# Altium footprint library A.PcbLib: 19 footprints (part 1 of 2)
Each footprint in its own frame and in the unit in brackets; x right, y up, seen from the top. Pads: shape width x height; smd on the part's side, far side on the other; paste and mask are expansions set on the pad; w line width, h text height; cw(c..) or ccw(c..) is an arc to the next point about the centre after c.
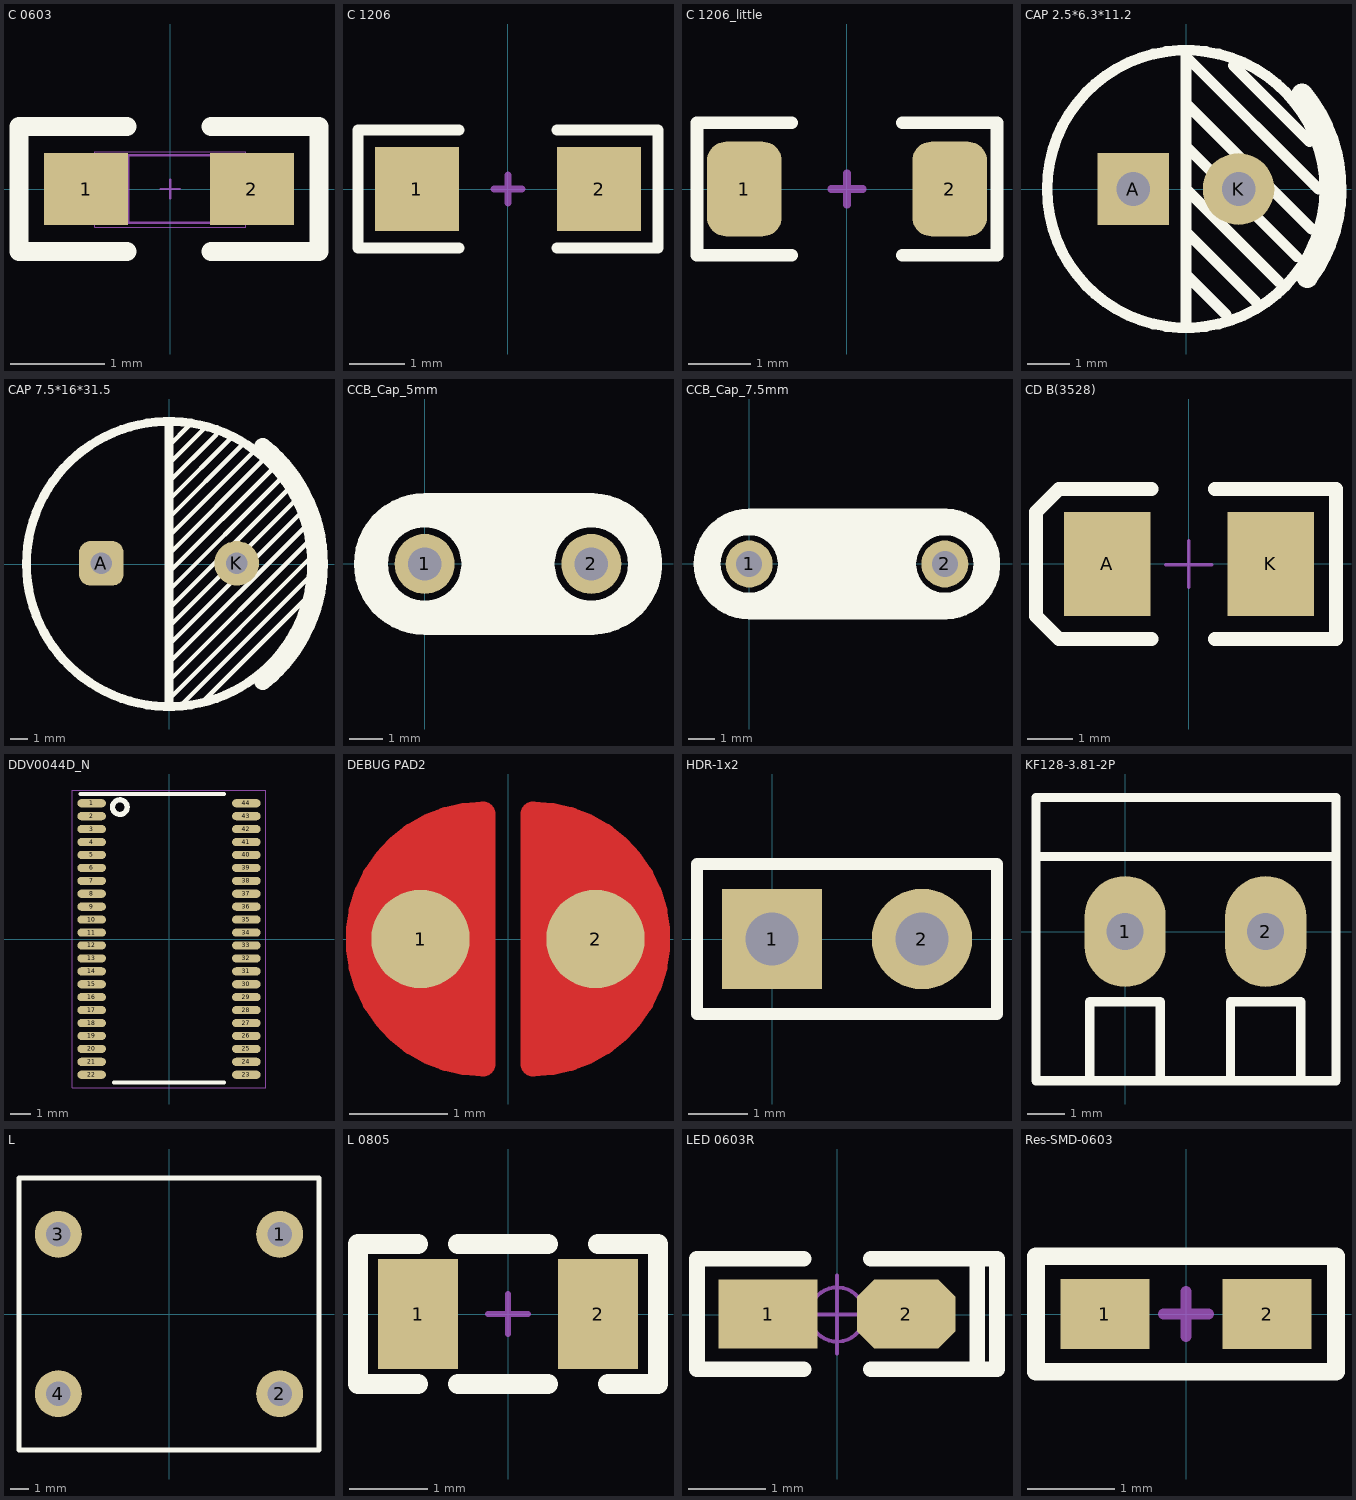
[diagram p0: the footprints below, top view; thin cyan lines are the x and y axes]

## C 0603 [mil] "无极性贴片电容"
pads (2):
  rect 35x30 smd: 1(-35,0) 2(34,0)
Top Overlay:
  lines w8: -18,-26 -63,-26 -63,26 -18,26 ; 17,-26 62,-26 62,26 17,26
Mechanical 13:
  lines w0.39: -31.5,-16 -31.5,15.5 31.5,15.5 31.5,-16 -31.5,-16
Mechanical 15:
  lines w1: -17.5,-14 -17.5,14 ; -3.94,0 3.94,0 ; 0,-3.94 0,3.94 ; 17.5,-14 17.5,14 ; -32,-14 -32,14 32,14 32,-14 -32,-14
3D body "C 0603.STEP": height 31.89, standoff -0.39, extent -31.5,-16.14 31.5,16.14

## C 1206 [mil] "无极性贴片电容"
pads (2):
  rect 60x60 smd: 1(-65,0) 2(65,0)
Top Overlay:
  lines w8: -35,-42 -107,-42 -107,42 -35,42 ; 35,-42 107,-42 107,42 35,42
Mechanical 15:
  lines w5: -10,0 10,0 ; 0,-10 0,10
3D body "C 1206.STEP": height 47.64, standoff -0.39, extent -62.99,-31.89 62.99,31.89

## C 1206_little [mil] "无极性贴片电容"
pads (2):
  rrect50% 47.24x60 smd: 1(-65,0) 2(65,0)
Top Overlay:
  lines w8: -35,-42 -95,-42 -95,42 -35,42 ; 35,-42 95,-42 95,42 35,42
Mechanical 15:
  lines w5: -10,0 10,0 ; 0,-10 0,10
3D body "C 1206.STEP": height 47.64, standoff -0.39, extent -62.99,-31.89 62.99,31.89

## CAP 2.5*6.3*11.2 [mm] "脚距2.5mm直径6.3mm高度11.2mm"
pads (2):
  rect 1.7x1.7 hole 0.8: A(-1.25,0)
  round 1.7 hole 0.8: K(1.25,0)
Top Overlay:
  circle w0.254: c0,0 r3.3
  lines w0.254: 0,-3.15 0,3.15 ; 0,-2.032 0.953,-2.984 ; 0,-1.016 1.638,-2.654 ; 0,0 2.21,-2.21 ; 0,1.016 2.629,-1.613 ; 0,2.032 2.984,-0.953 ; 0,3.048 0.102,3.048 3.15,0 ; 1.13,2.934 2.934,1.13
  lines w0.504: 2.759,2.258 cw(c0,0) 2.883,-2.097
3D body "CAP 2.5X6.3X11.2.STEP": height 11.23, standoff -3.38, extent -3.15,-3.15 3.16,3.15

## CAP 7.5*16*31.5 [mm] "脚距7.5mm直径16mm高度31.5mm"
pads (2):
  rrect50% 2.5x2.5 hole 1.2: A(-3.8,0.038)
  round 2.5 hole 1.2: K(3.8,0.038)
Top Overlay:
  circle w0.5: c0,0 r8
  lines w0.254: 0,-7.582 8.001,0.419 ; 0,-6.566 7.874,1.308 ; 0,-5.55 7.62,2.07 ; 0,-4.534 7.366,2.832 ; 0,-3.518 6.972,3.454 ; 0,-2.502 6.604,4.102 ; 0,-1.486 6.223,4.737 ; 0,-0.47 5.905,5.436 ; 0,0.546 5.296,5.842 ; 0,1.562 4.826,6.388 ; 0,2.578 4.064,6.642 ; 0,3.594 3.556,7.15 ; 0,4.61 2.54,7.15 2.769,7.379 ; 0,5.626 2.032,7.658 ; 0,6.642 1.143,7.785 ; 0.66,-7.938 7.938,-0.66 ; 2.032,-7.582 6.604,-3.01 7.81,-1.803
  lines w0.5: 0,-7.963 0,7.963
  lines w1: 5.259,-6.574 ccw(c0,0) 5.259,6.574
3D body "CAP 7.5X16X31.STEP": height 31.53, standoff -3.38, extent -8,-7.998 8.01,7.998

## CCB_Cap_5mm [mm]
height 10
pads (2):
  round 1.8 hole 1: 1(0,0) 2(5,0)
Top Overlay:
  circle w1: c5,0 r1.6
  circle w1: c0,0 r1.6
  lines w0.254: 0,-2 cw(c0.001,-2) 0.001,-1.999 5.057,-1.999 ccw(c5,0) 5.057,1.999 ccw(c5.056,1.999) 5.056,2 0,2 ccw(c0,0) 0,-2
  lines w0.5: 0.508,-1.651 4.318,-1.651 ; 0.508,1.778 4.318,1.778
  lines w1.8: 1.651,-1.143 3.302,-1.143 ; 1.778,1.143 3.175,1.143 ; 2.032,0 2.921,0

## CCB_Cap_7.5mm [mm]
height 10
pads (2):
  round 1.8 hole 1: 1(0,0) 2(7.5,0)
Top Overlay:
  circle w1: c0,0 r1.6
  circle w1: c7.5,0 r1.6
  lines w0.254: 5.056,2 cw(c5.056,1.999) 5.057,1.999 ; 7.557,1.999 cw(c7.5,0) 7.557,-1.999 0.001,-1.999 ccw(c0.001,-2) 0,-2 cw(c0,0) 0,2 7.557,2
  lines w0.5: 0.508,-1.651 7.493,-1.651 ; 0.508,1.778 6.731,1.778
  lines w1.8: 1.651,-1.143 5.588,-1.143 ; 1.778,1.143 5.461,1.143 ; 2.032,0 5.207,0

## CD B(3528) [mil] "长3.5mm，宽2.8mm，厚1.9mm"
pads (2):
  rect 75x90 smd: A(-70.87,-0.01) K(70.86,-0.01)
Top Overlay:
  lines w12: -32.51,-65.01 -112.51,-65.01 -132.51,-45.01 -132.51,44.99 -112.51,64.99 -32.51,64.99 ; 22.49,-65.01 127.49,-65.01 127.49,64.99 22.49,64.99
Mechanical 15:
  lines w3: -20.01,-0.79 19.99,-0.79 ; -0.01,-20.01 -0.01,19.99
3D body "CD B(3528).STEP": height 74.84, standoff -0.3, extent -68.92,-55.12 68.91,55.11

## DDV0044D_N [mm]
pads (44):
  oval 1.4x0.4 smd paste+0 mask+0: 1(-3.8,6.667) 2(-3.8,6.032) 3(-3.8,5.397) 4(-3.8,4.763) 5(-3.8,4.127) 6(-3.8,3.492) 7(-3.8,2.857) 8(-3.8,2.222) 9(-3.8,1.587) 10(-3.8,0.953) 11(-3.8,0.318) 12(-3.8,-0.318) 13(-3.8,-0.953) 14(-3.8,-1.587) 15(-3.8,-2.222) 16(-3.8,-2.857) 17(-3.8,-3.492) 18(-3.8,-4.127) 19(-3.8,-4.763) 20(-3.8,-5.397) 21(-3.8,-6.032) 22(-3.8,-6.667) 23(3.8,-6.667) 24(3.8,-6.032) 25(3.8,-5.397) 26(3.8,-4.763) 27(3.8,-4.127) 28(3.8,-3.492) 29(3.8,-2.857) 30(3.8,-2.222) 31(3.8,-1.587) 32(3.8,-0.953) 33(3.8,-0.318) 34(3.8,0.318) 35(3.8,0.953) 36(3.8,1.587) 37(3.8,2.222) 38(3.8,2.857) 39(3.8,3.492) 40(3.8,4.127) 41(3.8,4.763) 42(3.8,5.397) 43(3.8,6.032) 44(3.8,6.667)
Top Overlay:
  circle w0.254: c-2.413,6.477 r0.359
  lines w0.2: -4.35,7.125 2.7,7.125 ; -2.7,-7.05 2.7,-7.05
Mechanical 15:
  lines w0.05: -4.75,-7.3 4.75,-7.3 4.75,7.3 -4.75,7.3 -4.75,-7.3
3D body "DDV0044D.stp": height 1, standoff 0, extent -4.06,-7 4.061,7

## DEBUG PAD2 [mm] "调试断点焊盘"
pads (2):
  round 1 smd: 1(-0.889,0) 2(0.889,0)
Top Layer:
  region: 0.254,1.27 0.254,-1.27 0.762,-1.143 1.397,-0.508 1.524,0.254 1.27,0.762 1.016,1.016 0.508,1.27
  region: -0.254,1.27 -0.254,-1.27 -0.762,-1.143 -1.397,-0.508 -1.524,0.254 -1.27,0.762 -1.016,1.016 -0.508,1.27
  lines w0.254: -0.254,-1.27 cw(c-0.254,0) -0.254,1.27 -0.254,-1.27 ; 0.254,-1.27 ccw(c0.254,0) 0.254,1.27 0.254,-1.27
Top Solder:
  region: -0.254,1.27 -0.254,-1.27 -0.762,-1.143 -1.397,-0.508 -1.524,0.254 -1.27,0.762 -1.016,1.016 -0.508,1.27
  region: 0.254,1.27 0.254,-1.27 0.762,-1.143 1.397,-0.508 1.524,0.254 1.27,0.762 1.016,1.016 0.508,1.27
  lines w0.254: -0.254,-1.27 cw(c-0.254,0) -0.254,1.27 -0.254,-1.27 ; 0.254,-1.27 ccw(c0.254,0) 0.254,1.27 0.254,-1.27

## HDR-1x2 [mm] "排针，2脚"
pads (2):
  rect 1.7x1.7 hole 0.9: 1(0,0)
  round 1.7 hole 0.9: 2(2.54,0)
Top Overlay:
  lines w0.2: -1.27,-1.27 -1.27,1.27 3.81,1.27 3.81,-1.27 -1.27,-1.27
3D body "HDR2.54-1P.STEP": height 8.5, standoff -3, extent 1.27,-1.27 3.81,1.27
3D body "HDR2.54-1P.STEP": height 8.5, standoff -3, extent -1.27,-1.27 1.27,1.27

## KF128-3.81-2P [mm] "螺钉式接线端子，脚距3.81mm"
pads (2):
  oval 2.2x3 hole 1: 1(0,0) 2(3.81,0)
Top Overlay:
  lines w0.254: -2.413,2.032 5.715,2.032 ; -0.953,-4.039 -0.953,-1.905 0.953,-1.905 0.953,-4.039 ; 2.857,-4.039 2.857,-1.905 4.763,-1.905 4.763,-4.039 ; -2.413,-4.039 5.715,-4.039 5.715,3.632 -2.413,3.632 -2.413,-4.039
3D body "KF128.STEP": height 8.55, standoff -3.95, extent -2.405,-3.9 1.905,3.5
3D body "KF128.STEP": height 8.55, standoff -3.95, extent 1.405,-3.9 5.715,3.5

## L [mm]
height 16
pads (4):
  round 2.5 hole 1.3: 1(5.9,4.25) 2(5.9,-4.25) 3(-5.9,4.25) 4(-5.9,-4.25)
Top Overlay:
  lines w0.254: -8,-7.25 -8,7.25 8,7.25 8,-7.25 -8,-7.25

## L 0805 [mil] "小功率贴片电感"
pads (2):
  rect 40x55 smd: 1(-45,0) 2(45,0)
Top Overlay:
  lines w10: -45,-35 -75,-35 -75,35 -45,35 ; -25,-35 20,-35 ; -25,35 20,35 ; 45,35 75,35 75,-35 50,-35
Mechanical 15:
  lines w3: -10,0 10,0 ; 0,-10 0,10
3D body "0805.STEP": height 35.43, standoff -0.11, extent -39.37,-23.62 39.37,23.62

## LED 0603R [mil] "红色0603LED"
pads (2):
  rect 50x35 smd: 1(-35,0.26)
  oct 50x35 smd: 2(35,0.26)
Top Overlay:
  lines w8: -17,-27.74 -71,-27.74 -71,-25.74 -71,28.26 -70,28.26 -17,28.26 ; 17,-27.74 70,-27.74 ; 17,28.26 71,28.26 81,28.26 81,-27.74 71,-27.74 71,26.26
Mechanical 15:
  circle w1.97: c0,0 r13.78
  lines w1.97: -19.68,0 19.68,0 ; 0,-19.68 0,19.68
3D body "LED 0603-R.STEP": height 18.36, standoff -0.16, extent -31.49,-15.79 31.5,15.79
3D body "LED 0603玻璃罩.STEP": height 23.82, standoff 8.07, extent -23.58,-15.79 23.58,15.79

## Res-SMD-0603 [mil] "1/10W贴片电阻"
pads (2):
  rect 40x31.5 smd: 1(-36.5,0) 2(36.5,0)
Top Overlay:
  lines w8: -67.5,-26 -67.5,26 67.5,26 67.5,-26 -67.5,-26
Mechanical 15:
  lines w5: -10,0 10,0 ; 0,-10 0,10
3D body "R 0603.STEP": height 15.79, standoff -0.13, extent -31.49,-15.74 31.5,15.75